# Altium schematic symbol library power_delivery.SchLib: 4 symbols
Pins are listed as number, name and electrical type; pins without a type are passive.

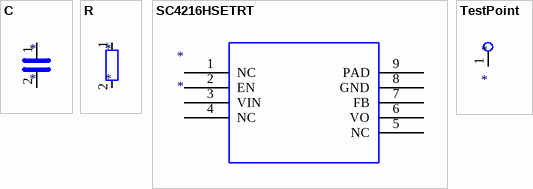
[diagram p0: symbols C to TestPoint]

## C
designator *
pins: 1, 2

## R
designator *
pins: 1, 2

## SC4216HSETRT
designator *
pins: 1 NC, 2 EN, 3 VIN, 4 NC, 5 NC, 6 VO, 7 FB, 8 GND, 9 PAD

## TestPoint
designator *
pins: 1